# Altium footprint library uSOP10.PcbLib: 1 footprints
Each footprint in its own frame and in the unit in brackets; x right, y up, seen from the top. Pads: shape width x height; smd on the part's side, far side on the other; paste and mask are expansions set on the pad; w line width, h text height; cw(c..) or ccw(c..) is an arc to the next point about the centre after c.
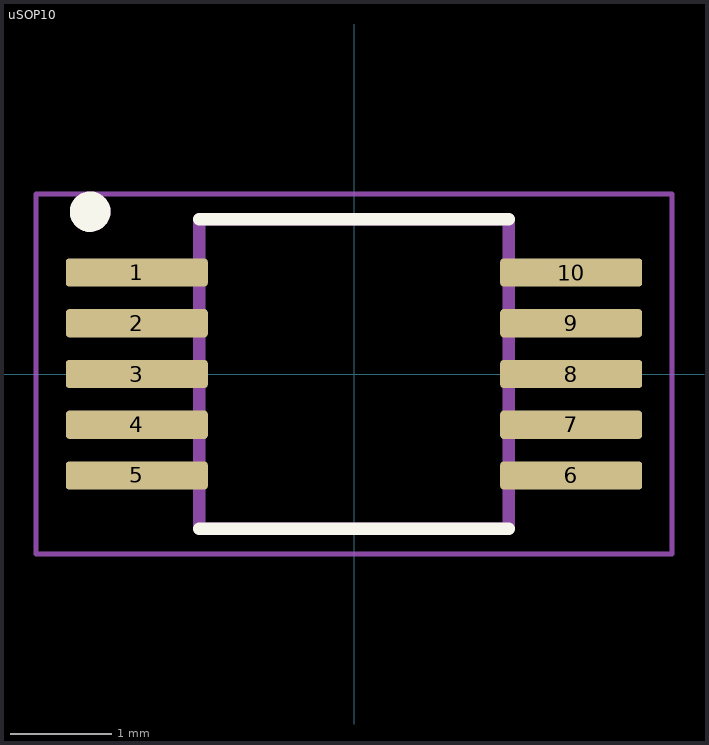
[diagram p0: the footprint, top view; thin cyan lines are the x and y axes]

## uSOP10 [mm]
pads (10):
  rrect25% 1.4x0.28 smd: 1(-2.14,1) 2(-2.14,0.5) 3(-2.14,0) 4(-2.14,-0.5) 5(-2.14,-1) 6(2.14,-1) 7(2.14,-0.5) 8(2.14,0) 9(2.14,0.5) 10(2.14,1)
Top Overlay:
  circle w0.2: c-2.6,1.6 r0.1
  lines w0.127: -1.525,-1.525 1.525,-1.525 ; -1.525,1.525 1.525,1.525
Mechanical 13:
  circle w0.2: c-2.6,1.6 r0.1
  lines w0.127: -1.525,-1.525 1.525,-1.525 1.525,1.525 -1.525,1.525 -1.525,-1.525
Mechanical 15:
  lines w0.05: -3.135,-1.775 3.135,-1.775 3.135,1.775 -3.135,1.775 -3.135,-1.775
3D body "step_temp.STEP": height 1.1, standoff 0, extent -2.45,-1.5 2.45,1.5